# EAGLE library part 418311170805 (library EAGLE-TACT_SWITCHES-rev17c)
WS-PT 2.54 mm piano type compact SMD Dip Switch with flat actuator, 5 Pole
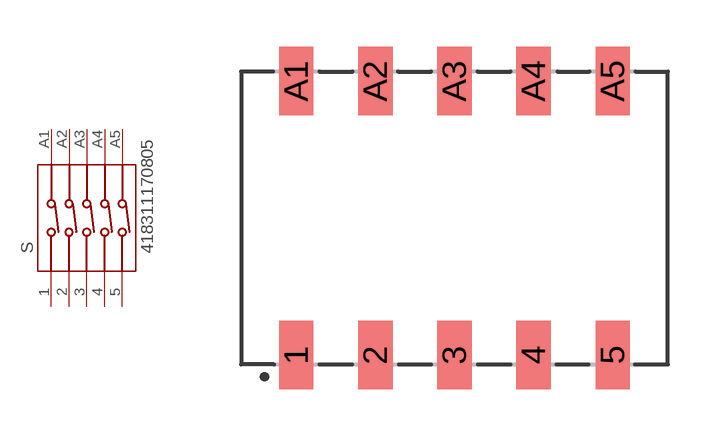
[diagram p77: symbol with the pads of 418311170805; footprint 418311170805]

Designator prefix S

## 418311170805  [418311170805]
1  1  pas
2  2  pas
3  3  pas
4  4  pas
5  5  pas
A1  A1  pas
A2  A2  pas
A3  A3  pas
A4  A4  pas
A5  A5  pas

## Footprint 418311170805 (pad centres in mm)
WS-PT 2.54 mm piano type compact SMD Dip Switch with flat actuator, 5 Pole
smd 1.1 x 2.2: 1 -5.08,-4.4; 2 -2.54,-4.4; 3 0,-4.4; 4 2.54,-4.4; 5 5.08,-4.4; A1 -5.08,4.4; A2 -2.54,4.4; A3 0,4.4; A4 2.54,4.4; A5 5.08,4.4